# Altium schematic symbol library CONN_5x2_687310124422.SchLib: 1 symbol
Pins are listed as number, name and electrical type; pins without a type are passive.

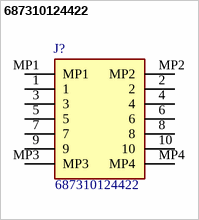
[diagram p0: symbol 687310124422]

## 687310124422
designator J?
Wurth Elektronik 687 0.5mm Pitch 10 Way Straight SMT FPC Connector; Geometry.Height: 4.45mm; Mouser Part Number: 710-687310124422; Mouser Price/Stock: https://www.mouser.co.uk/ProductDetail/Wurth-Elektronik/687310124422?qs=qR1qlUC5%2FYSwH5sZ3IPHvQ%3D%3D; Manufacturer_Name: Wurth Elektronik; Manufacturer_Part_Number: 687310124422; Datasheet Link: https://www.we-online.com/catalog/datasheet/687310124422.pdf
footprint 687310124422
pins: 1, 2, 3, 4, 5, 6, 7, 8, 9, 10, MP1, MP2, MP3, MP4